# EAGLE library part NRPN12 (library con-sullins-nrpn)
HEADER
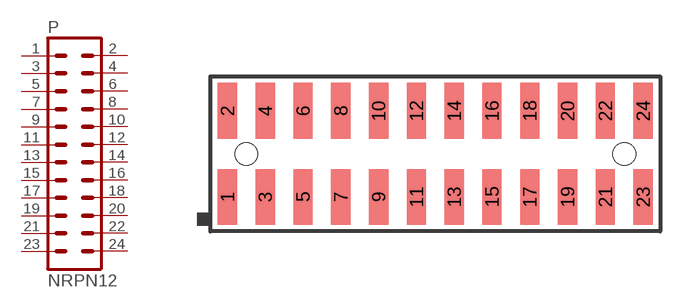
[diagram p9: symbol with the pads of NRPN12; footprint NRPN12]

Designator prefix P

## NRPN12  [NRPN12]
1  1  pas
2  2  pas
3  3  pas
4  4  pas
5  5  pas
6  6  pas
7  7  pas
8  8  pas
9  9  pas
10  10  pas
11  11  pas
12  12  pas
13  13  pas
14  14  pas
15  15  pas
16  16  pas
17  17  pas
18  18  pas
19  19  pas
20  20  pas
21  21  pas
22  22  pas
23  23  pas
24  24  pas

## Footprint NRPN12 (pad centres in mm)
HEADER
smd 1.02 x 2.95: 1 -11,-2.275; 2 -11,2.275; 3 -9,-2.275; 4 -9,2.275; 5 -7,-2.275; 6 -7,2.275; 7 -5,-2.275; 8 -5,2.275; 9 -3,-2.275; 10 -3,2.275; 11 -1,-2.275; 12 -1,2.275; 13 1,-2.275; 14 1,2.275; 15 3,-2.275; 16 3,2.275; 17 5,-2.275; 18 5,2.275; 19 7,-2.275; 20 7,2.275; 21 9,-2.275; 22 9,2.275; 23 11,-2.275; 24 11,2.275
hole 1.2 at -10,0
hole 1.2 at 10,0